# EAGLE library part VL6180X (library FlashPCB_Sensors)
VL6180X - Time of Flight distance sensor Technical Specifications: Range: 0 to 62cm Voltage Range: 2.6v - 3.3v Component Search: [DATA SHEET NAME] <[FLASHPCB URL]> Datasheet: Proximity sensing module <https://www.st.com/resource/en/datasheet/vl6180.pdf>
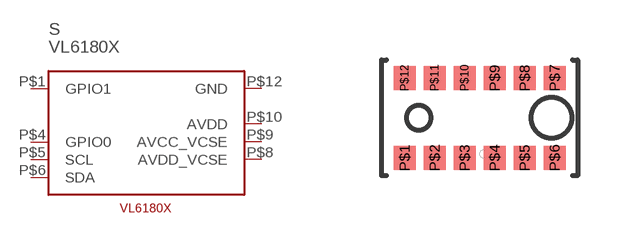
[diagram p32: symbol with the pads of VL6180X; footprint VL6180X]

Designator prefix S

## VL6180X  [VL6180X]
P$1  GPIO1
P$4  GPIO0
P$5  SCL  in
P$6  SDA
P$8  AVDD_VCSE  pwr
P$9  AVCC_VCSE  pwr
P$10  AVDD  pwr
P$12  GND  pwr

## Footprint VL6180X (pad centres in mm)
smd 0.55 x 0.6: P$1 -1.875,-1; P$2 -1.125,-1; P$3 -0.375,-1; P$4 0.375,-1; P$5 1.125,-1; P$6 1.875,-1; P$7 1.875,1; P$8 1.125,1; P$9 0.375,1; P$10 -0.375,1; P$11 -1.125,1; P$12 -1.875,1